# Altium footprint library MOLEX_5023860671.PcbLib: 1 footprints
Each footprint in its own frame and in the unit in brackets; x right, y up, seen from the top. Pads: shape width x height; smd on the part's side, far side on the other; paste and mask are expansions set on the pad; w line width, h text height; cw(c..) or ccw(c..) is an arc to the next point about the centre after c.
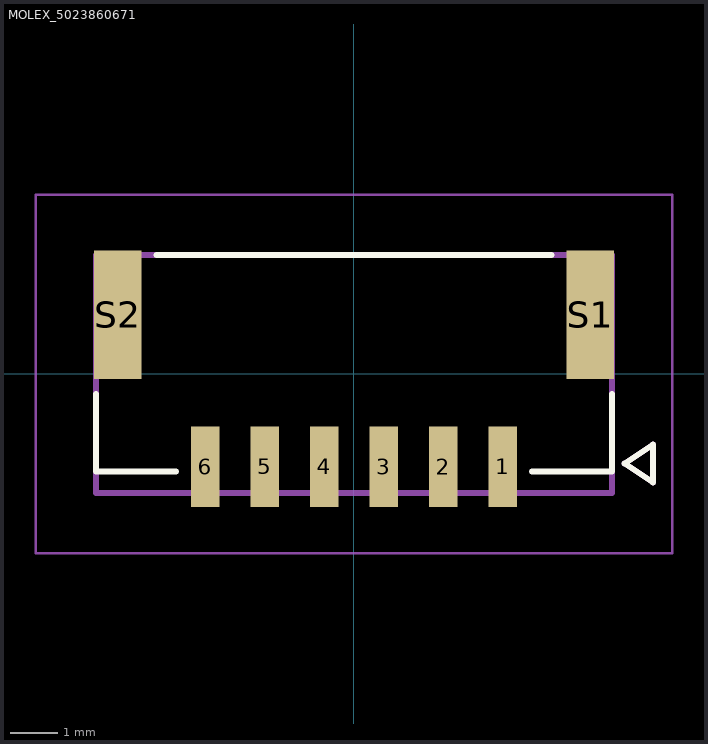
[diagram p0: the footprint, top view; thin cyan lines are the x and y axes]

## MOLEX_5023860671 [mm]
height 5.55
pads (8):
  rect 0.6x1.7 smd mask+0.076: 1(3.125,-1.95) 2(1.875,-1.95) 3(0.625,-1.95) 4(-0.625,-1.95) 5(-1.875,-1.95) 6(-3.125,-1.95)
  rect 1x2.7 smd mask+0.076: S1(4.975,1.25) S2(-4.975,1.25)
Top Overlay:
  lines w0.127: -5.425,-0.42 -5.425,-2.05 -3.745,-2.05 ; -4.155,2.5 4.155,2.5 ; 3.745,-2.05 5.425,-2.05 5.425,-0.42 ; 5.695,-1.88 6.295,-1.48 6.295,-2.28 5.695,-1.88
Mechanical 13:
  lines w0.127: -5.425,-2.5 -5.425,2.5 5.425,2.5 5.425,-2.5 -5.425,-2.5 ; 5.695,-1.88 6.295,-1.48 6.295,-2.28 5.695,-1.88
Mechanical 15:
  lines w0.05: -6.695,-3.77 -6.695,3.77 6.695,3.77 6.695,-3.77 -6.695,-3.77